# Altium footprint library ICs.PcbLib: 109 footprints (part 5 of 7)
Each footprint in its own frame and in the unit in brackets; x right, y up, seen from the top. Pads: shape width x height; smd on the part's side, far side on the other; paste and mask are expansions set on the pad; w line width, h text height; cw(c..) or ccw(c..) is an arc to the next point about the centre after c.
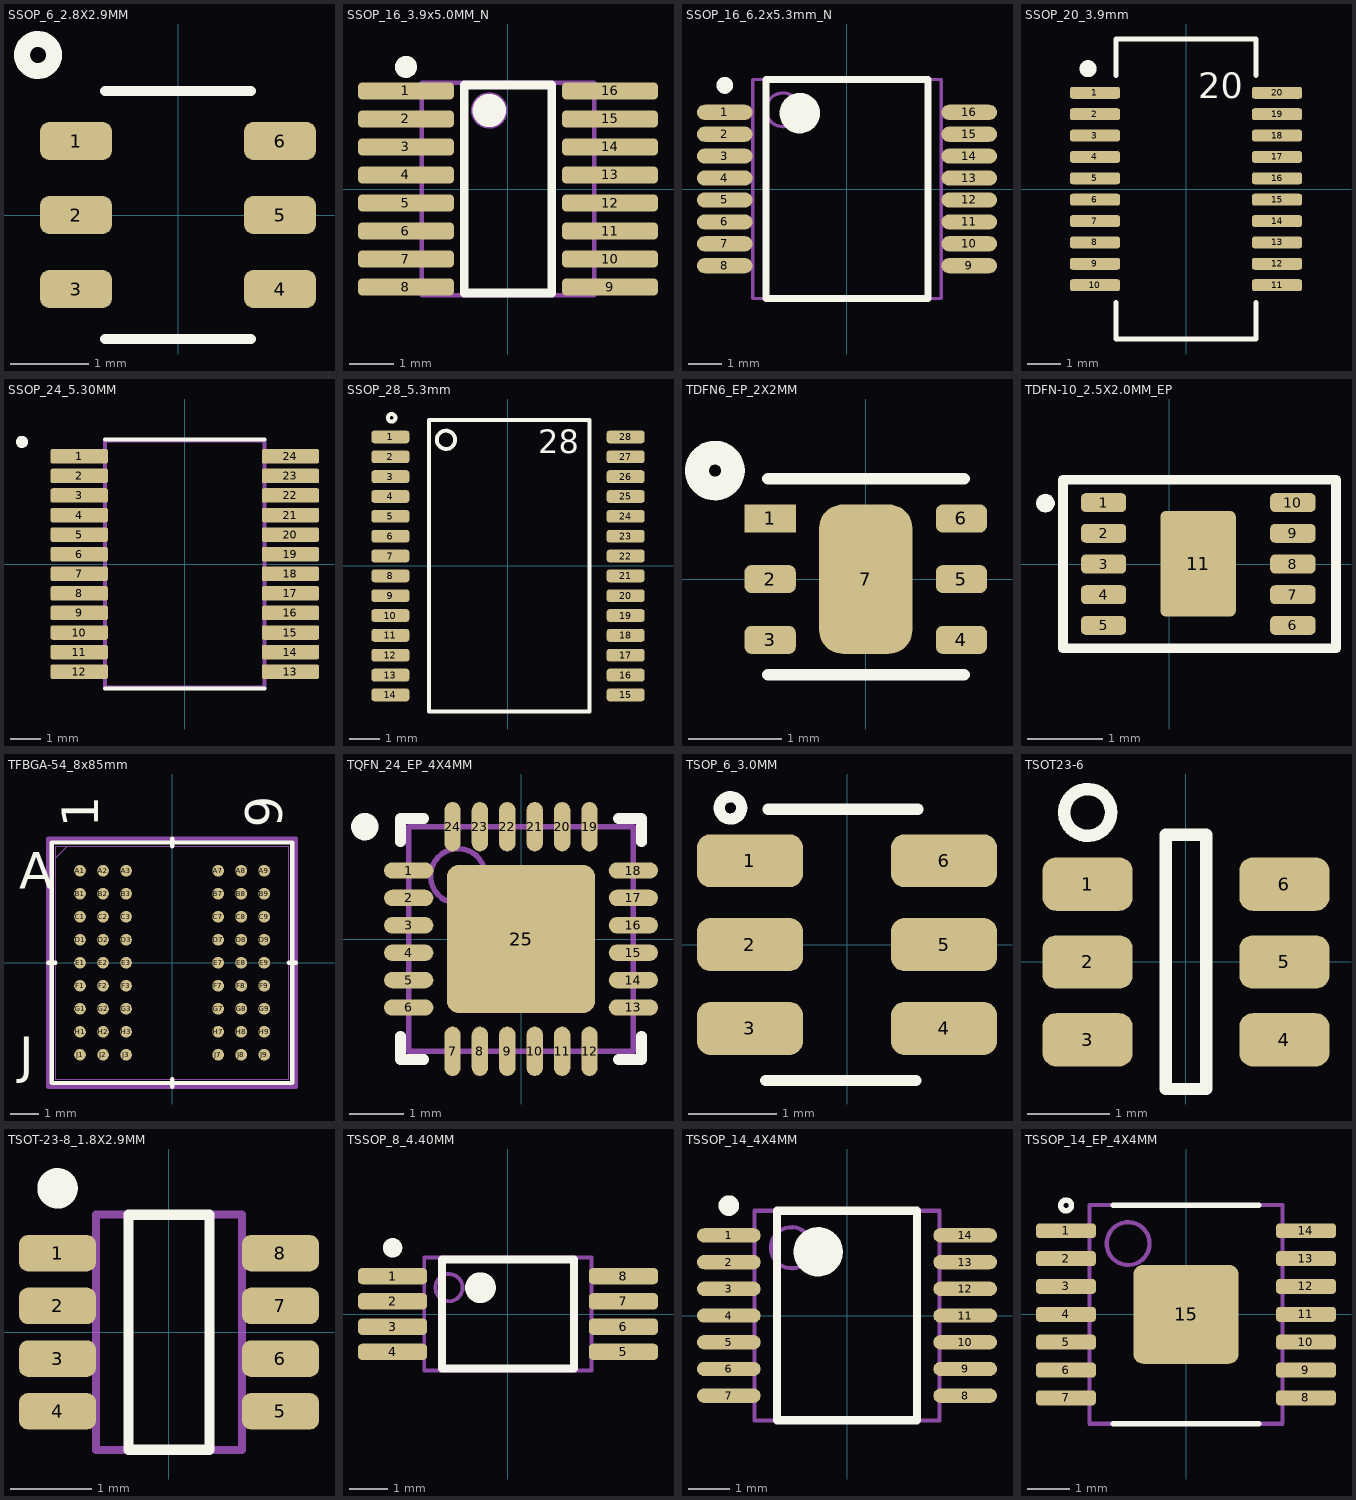
[diagram p4: the footprints below, top view; thin cyan lines are the x and y axes]

## SSOP_6_2.8X2.9MM [mil] "20220331 / A-F. Romo"
pads (6):
  rrect50% 36x19 smd: 1(-51,37) 2(-51,0) 3(-51,-37) 4(51,-37) 5(51,0) 6(51,37)
Top Overlay:
  circle w8: c-70,80 r8
  lines w5: -36.5,-62 36.5,-62 ; -36.5,62 36.5,62
3D body "SSOP6_ROM.step": height 49.09, standoff 0, extent -55,-57.01 55,57.01

## SSOP_16_3.9x5.0MM_N [mil] "/ 20210218 / C-D Viveros"
pads (16):
  rrect50% 85.71x15.24 smd: 1(-91.07,87.5) 2(-91.07,62.5) 3(-91.07,37.5) 4(-91.07,12.5) 5(-91.07,-12.5) 6(-91.07,-37.5) 7(-91.07,-62.5) 8(-91.07,-87.5) 9(91.07,-87.5) 10(91.07,-62.5) 11(91.07,-37.5) 12(91.07,-12.5) 13(91.07,12.5) 14(91.07,37.5) 15(91.07,62.5) 16(91.07,87.5)
Top Overlay:
  circle w9.84: c-91.07,109 r4.92
  lines w7.87: -39,-92.72 39.02,-92.72 39.02,92.72 -39,92.72 -39,-92.72
  lines w23.62: -13.78,69.78 cw(c-16.72,70.11) -13.81,70.66
Mechanical 1:
  circle w3.94: c-16.72,70.11 r14.32
  lines w3.94: -77,-94.83 -77,94.69 77,94.69 77,-94.83 ; -77,-94.69 77,-94.69
3D body "IC_FTDI_FT230XS-R_eec.STEP": height 69.04, standoff 0, extent -118.59,-96.5 118.6,96.5

## SSOP_16_6.2x5.3mm_N [mm] "/ 20200724/N-A.Potosi"
pads (16):
  oval 1.65x0.45 smd: 1(-3.625,2.275) 2(-3.625,1.625) 3(-3.625,0.975) 4(-3.625,0.325) 5(-3.625,-0.325) 6(-3.625,-0.975) 7(-3.625,-1.625) 8(-3.625,-2.275) 9(3.625,-2.275) 10(3.625,-1.625) 11(3.625,-0.975) 12(3.625,-0.325) 13(3.625,0.325) 14(3.625,0.975) 15(3.625,1.625) 16(3.625,2.275)
Top Overlay:
  circle w0.25: c-3.625,3.075 r0.125
  circle w0.6: c-1.4,2.25 r0.3
  lines w0.2: -2.4,-3.25 -2.4,3.25 2.4,3.25 2.4,-3.25 -2.4,-3.25
Mechanical 1:
  circle w0.1: c-1.9,2.35 r0.5
  lines w0.1: -2.8,-3.25 -2.8,3.25 2.8,3.25 2.8,-3.25 -2.8,-3.25
3D body "DB0016A.stp": height 2, standoff 0, extent -3.905,-3.1 3.906,3.1

## SSOP_20_3.9mm [mil] "20-SSOP/ 20220531 / N-A.Potosi"
pads (20):
  rrect50% 59x14 smd: 1(-106.5,112.5) 2(-106.5,87.5) 3(-106.5,62.5) 4(-106.5,37.5) 5(-106.5,12.5) 6(-106.5,-12.5) 7(-106.5,-37.5) 8(-106.5,-62.5) 9(-106.5,-87.5) 10(-106.5,-112.5) 11(106.5,-112.5) 12(106.5,-87.5) 13(106.5,-62.5) 14(106.5,-37.5) 15(106.5,-12.5) 16(106.5,12.5) 17(106.5,37.5) 18(106.5,62.5) 19(106.5,87.5) 20(106.5,112.5)
Top Overlay:
  circle w10: c-114.71,140.78 r5
  lines w6: -82,-132.6 -82,-175.5 82,-175.5 82,-132.6 ; -82,132.6 -82,175.5 82,175.5 82,132.6
  text "20" at 14.31,106.39 h30
3D body "FT231XS-R_FTD.step": height 69.09, standoff 0, extent -122.01,-170.51 122.01,170.51

## SSOP_24_5.30MM [mm] "/20210728/M-C.Calderon"
pads (24):
  rrect25% 1.9x0.48 smd: 1(-3.505,3.575) 2(-3.505,2.925) 3(-3.505,2.275) 4(-3.505,1.625) 5(-3.505,0.975) 6(-3.505,0.325) 7(-3.505,-0.325) 8(-3.505,-0.975) 9(-3.505,-1.625) 10(-3.505,-2.275) 11(-3.505,-2.925) 12(-3.505,-3.575) 13(3.505,-3.575) 14(3.505,-2.925) 15(3.505,-2.275) 16(3.505,-1.625) 17(3.505,-0.975) 18(3.505,-0.325) 19(3.505,0.325) 20(3.505,0.975) 21(3.505,1.625) 22(3.505,2.275) 23(3.505,2.925) 24(3.505,3.575)
Top Overlay:
  circle w0.2: c-5.405,4.055 r0.1
  lines w0.127: -2.65,-4.135 2.65,-4.135 ; -2.65,4.135 2.65,4.135
Mechanical 1:
  circle w0.2: c-5.405,4.055 r0.1
  lines w0.127: -2.65,-4.1 2.65,-4.1 2.65,4.1 -2.65,4.1 -2.65,-4.1
3D body "User Library-SSOP 24 PIN_.step": height 1.96, standoff -0.03, extent -4.069,-4.289 3.832,4.341

## SSOP_28_5.3mm [mm] "/ 20210219 / M-C.Calderon"
pads (28):
  rrect50% 1.25x0.42 smd: 1(-3.853,4.225) 2(-3.853,3.575) 3(-3.853,2.925) 4(-3.853,2.275) 5(-3.853,1.625) 6(-3.853,0.975) 7(-3.853,0.325) 8(-3.853,-0.325) 9(-3.853,-0.975) 10(-3.853,-1.625) 11(-3.853,-2.275) 12(-3.853,-2.925) 13(-3.853,-3.575) 14(-3.853,-4.225) 15(3.853,-4.225) 16(3.853,-3.575) 17(3.853,-2.925) 18(3.853,-2.275) 19(3.853,-1.625) 20(3.853,-0.975) 21(3.853,-0.325) 22(3.853,0.325) 23(3.853,0.975) 24(3.853,1.625) 25(3.853,2.275) 26(3.853,2.925) 27(3.853,3.575) 28(3.853,4.225)
Top Overlay:
  circle w0.127: c-2.031,4.131 r0.3
  circle w0.127: c-3.81,4.851 r0.125
  lines w0.127: -2.591,-4.767 2.667,-4.767 2.667,4.784 -2.591,4.784 -2.591,-4.767
  text "28" at 0.991,3.683 h0.76
3D body "User Library-ssop28_model.STEP": height 2.01, standoff 0.01, extent -3.903,-5.096 3.897,5.104

## TDFN6_EP_2X2MM [mm] "/20210809/N-A.Potosi"
pads (7):
  rect 0.55x0.3 smd: 1(-1.025,0.65)
  rrect50% 0.55x0.3 smd: 2(-1.025,0) 3(-1.025,-0.65) 4(1.025,-0.65) 5(1.025,0) 6(1.025,0.65)
  rrect50% 1x1.6 smd: 7(0,0)
Top Overlay:
  circle w0.254: c-1.616,1.163 r0.192
  lines w0.127: -1.046,-1.024 1.054,-1.024 ; -1.046,1.076 1.054,1.076
3D body: height 0.2, standoff 0, extent 1.019,-0.747 1.086,-0.544
3D body: height 0.2, standoff 0, extent 1.02,-0.105 1.086,0.098
3D body: height 0.2, standoff 0, extent 1.02,0.543 1.087,0.746
3D body: height 0.2, standoff 0, extent -1.079,0.544 -1.013,0.747
3D body: height 0.2, standoff 0, extent -1.08,-0.105 -1.014,0.098
3D body: height 0.2, standoff 0, extent -1.08,-0.754 -1.014,-0.551
3D body: height 0.8, standoff 0, extent -1.046,-1.024 1.054,1.076

## TDFN-10_2.5X2.0MM_EP [mm] "10-TDFN/20201001/J-E.Pachon"
pads (12):
  rrect50% 0.6x0.25 smd: 1(-0.868,0.813) 2(-0.868,0.406) 3(-0.868,0) 4(-0.868,-0.406) 5(-0.868,-0.813) 6(1.639,-0.813) 7(1.639,-0.406) 8(1.639,0) 9(1.639,0.406) 10(1.639,0.813)
  rrect15% 1x1.4 smd: 11(0.384,0.003)
  round 0.25 on Top Overlay: ""(-1.639,0.806)
Top Overlay:
  lines w0.127: -1.406,-1.118 2.211,-1.118 2.211,1.118 -1.406,1.118 -1.406,0.795 -1.406,-0.272 -1.406,-1.118
3D body "21-100013A_T102A21C_MXM.step": height 0.81, standoff 0, extent -0.869,-0.987 1.621,1.019

## TFBGA-54_8x85mm [mil] "/20230731/N-A.Potosi"
height 31.5
pads (54):
  round 16 smd paste-1 mask+2.5: A1(-125.98,125.98) A2(-94.49,125.98) A3(-62.99,125.98) A7(62.99,125.98) A8(94.49,125.98) A9(125.98,125.98) B1(-125.98,94.49) B2(-94.49,94.49) B3(-62.99,94.49) B7(62.99,94.49) B8(94.49,94.49) B9(125.98,94.49) C1(-125.98,62.99) C2(-94.49,62.99) C3(-62.99,62.99) C7(62.99,62.99) C8(94.49,62.99) C9(125.98,62.99) D1(-125.98,31.5) D2(-94.49,31.5) D3(-62.99,31.5) D7(62.99,31.5) D8(94.49,31.5) D9(125.98,31.5) E1(-125.98,0) E2(-94.49,0) E3(-62.99,0) E7(62.99,0) E8(94.49,0) E9(125.98,0) F1(-125.98,-31.5) F2(-94.49,-31.5) F3(-62.99,-31.5) F7(62.99,-31.5) F8(94.49,-31.5) F9(125.98,-31.5) G1(-125.98,-62.99) G2(-94.49,-62.99) G3(-62.99,-62.99) G7(62.99,-62.99) G8(94.49,-62.99) G9(125.98,-62.99) H1(-125.98,-94.49) H2(-94.49,-94.49) H3(-62.99,-94.49) H7(62.99,-94.49) H8(94.49,-94.49) H9(125.98,-94.49) J1(-125.98,-125.98) J2(-94.49,-125.98) J3(-62.99,-125.98) J7(62.99,-125.98) J8(94.49,-125.98) J9(125.98,-125.98)
Top Overlay:
  lines w6: -169.5,0 -159.5,0 ; 0,-169.5 0,-159.5 ; 0,159.5 0,169.5 ; 159.5,0 169.5,0 ; -164.5,-164.5 164.5,-164.5 164.5,164.5 -164.5,164.5 -164.5,-164.5
  text "A" at -209.5,100.98 h50
  text "J" at -209.5,-150.98 h50
  text "1" at -100.98,184.5 h50
  text "9" at 150.98,184.5 h50
Mechanical 1:
  lines w1: -159.5,143.75 -143.75,159.5 ; -159.5,-159.5 159.5,-159.5 159.5,159.5 -159.5,159.5 -159.5,-159.5
  text "A" at -209.5,100.98 h50
  text "J" at -209.5,-150.98 h50
  text "1" at -100.98,184.5 h50
  text "9" at 150.98,184.5 h50
Mechanical 15:
  lines w6: -169.5,-169.5 -169.5,169.5 169.5,169.5 169.5,-169.5 -169.5,-169.5
3D body "TFBGA-54_8X8_ISI.step": height 47.09, standoff 0.02, extent -159.49,-159.49 159.49,159.49

## TQFN_24_EP_4X4MM [mm] "/20210809/V-A.patino"
height 0.8
pads (25):
  oval 0.9x0.3 smd: 1(-2.05,1.25) 2(-2.05,0.75) 3(-2.05,0.25) 4(-2.05,-0.25) 5(-2.05,-0.75) 6(-2.05,-1.25) 13(2.05,-1.25) 14(2.05,-0.75) 15(2.05,-0.25) 16(2.05,0.25) 17(2.05,0.75) 18(2.05,1.25)
  oval 0.3x0.9 smd: 7(-1.25,-2.05) 8(-0.75,-2.05) 9(-0.25,-2.05) 10(0.25,-2.05) 11(0.75,-2.05) 12(1.25,-2.05) 19(1.25,2.05) 20(0.75,2.05) 21(0.25,2.05) 22(-0.25,2.05) 23(-0.75,2.05) 24(-1.25,2.05)
  rrect15% 2.7x2.7 smd: 25(0,0)
Top Overlay:
  circle w0.25: c-2.85,2.05 r0.125
  lines w0.2: -2.2,-1.775 -2.2,-2.2 -1.775,-2.2 ; -2.2,1.775 -2.2,2.2 -1.775,2.2 ; 1.775,-2.2 2.2,-2.2 2.2,-1.775 ; 1.775,2.2 2.2,2.2 2.2,1.775
Mechanical 13:
  circle w0.1: c-1.15,1.15 r0.5
  lines w0.1: -2.05,-2.05 2.05,-2.05 2.05,2.05 -2.05,2.05 -2.05,-2.05
3D body: height 0.8, standoff 0, extent -2.05,-2.05 2.05,2.05

## TSOP_6_3.0MM [mm] "SOT-23-6 Thin, TSOT-23-6 / 20190225 / C-A.Serna.A"
pads (6):
  rrect50% 1.2x0.6 smd: 1(-1.1,0.95) 2(-1.1,0) 3(-1.1,-0.95) 4(1.1,-0.95) 5(1.1,0) 6(1.1,0.95)
Top Overlay:
  circle w0.127: c-1.321,1.549 r0.127
  lines w0.127: -0.922,-1.539 0.78,-1.539 ; -0.897,1.534 0.805,1.534
3D body "TSOP_6.step": height 0.97, standoff -0.05, extent -1.443,-1.532 1.428,1.532

## TSOT23-6 [mm] "/20220413/V-A.Patino"
height 1
pads (6):
  rrect50% 1.1x0.65 smd: 1(-1.2,0.95) 2(-1.2,0) 3(-1.2,-0.95) 4(1.2,-0.95) 5(1.2,0) 6(1.2,0.95)
Top Overlay:
  circle w0.152: c-1.2,1.825 r0.286
  lines w0.152: -0.25,-1.55 -0.25,1.55 0.25,1.55 0.25,-1.55 -0.25,-1.55
3D body: height 1, standoff 0.01, extent -0.875,-1.535 0.875,1.535

## TSOT-23-8_1.8X2.9MM [mm] "SOT-23-8 Thin, TSOT-23-8/20210809/N-A.Potosi"
pads (8):
  rrect50% 0.95x0.45 smd: 1(-1.375,0.975) 2(-1.375,0.325) 3(-1.375,-0.325) 4(-1.375,-0.975) 5(1.375,-0.975) 6(1.375,-0.325) 7(1.375,0.325) 8(1.375,0.975)
Top Overlay:
  circle w0.25: c-1.375,1.775 r0.125
  lines w0.127: -0.5,-1.45 -0.5,1.45 0.5,1.45 0.5,-1.45 -0.5,-1.45
Mechanical 1:
  lines w0.1: -0.9,-1.45 -0.9,1.45 0.9,1.45 0.9,-1.45 -0.9,-1.45
3D body: height 1, standoff 0.1, extent -0.9,-1.45 0.9,1.45

## TSSOP_8_4.40MM [mm] "/ 20210809 / C-D Viveros"
pads (8):
  rrect50% 1.78x0.42 smd: 1(-2.97,0.975) 2(-2.97,0.325) 3(-2.97,-0.325) 4(-2.97,-0.975) 5(2.97,-0.975) 6(2.97,-0.325) 7(2.97,0.325) 8(2.97,0.975)
Top Overlay:
  circle w0.6: c-0.709,0.678 r0.094
  circle w0.25: c-2.97,1.704 r0.125
  lines w0.2: -1.7,1.388 -1.7,-1.4 1.7,-1.4 1.7,1.4 -1.7,1.4
Mechanical 1:
  circle w0.1: c-1.519,0.678 r0.35
  lines w0.1: -2.156,-1.45 -2.156,1.45 2.149,1.45 2.149,-1.45 -2.156,-1.45
3D body "User Library-TSSOP-8.STEP": height 1.21, standoff 0.01, extent -3.2,-1.5 3.2,1.5

## TSSOP_14_4X4MM [mm] "/ 20210809 / C-A.Serna.A"
height 1.2
pads (14):
  oval 1.55x0.35 smd: 1(-2.875,1.95) 2(-2.875,1.3) 3(-2.875,0.65) 4(-2.875,0) 5(-2.875,-0.65) 6(-2.875,-1.3) 7(-2.875,-1.95) 8(2.875,-1.95) 9(2.875,-1.3) 10(2.875,-0.65) 11(2.875,0) 12(2.875,0.65) 13(2.875,1.3) 14(2.875,1.95)
Top Overlay:
  circle w0.25: c-2.875,2.675 r0.125
  circle w0.6: c-0.7,1.55 r0.3
  lines w0.2: -1.7,-2.55 -1.7,2.55 1.7,2.55 1.7,-2.55 -1.7,-2.55
Mechanical 1:
  circle w0.1: c-1.35,1.65 r0.5
  lines w0.1: -2.25,-2.55 -2.25,2.55 2.25,2.55 2.25,-2.55 -2.25,-2.55
3D body: height 1.2, standoff 0.05, extent -2.25,-2.55 2.25,2.55

## TSSOP_14_EP_4X4MM [mm] "HTSSOP_14/20210809/J-E.Pachon"
pads (15):
  rrect50% 1.4x0.35 smd: 1(-2.8,1.95) 2(-2.8,1.3) 3(-2.8,0.65) 4(-2.8,0) 5(-2.8,-0.65) 6(-2.8,-1.3) 7(-2.8,-1.95) 8(2.8,-1.95) 9(2.8,-1.3) 10(2.8,-0.65) 11(2.8,0) 12(2.8,0.65) 13(2.8,1.3) 14(2.8,1.95)
  rrect20% 2.46x2.31 smd: 15(0,0)
Top Overlay:
  circle w0.127: c-2.8,2.54 r0.125
  lines w0.127: -1.7,-2.55 1.7,-2.55 ; -1.7,2.55 1.7,2.55
Mechanical 1:
  circle w0.1: c-1.35,1.65 r0.5
  lines w0.1: -2.25,-2.55 -2.25,2.55 2.25,2.55 2.25,-2.55 -2.25,-2.55
3D body: height 1.1, standoff 0.05, extent -2.25,-2.55 2.25,2.55